# Altium footprint library CASE-A.PcbLib: 1 footprints
Each footprint in its own frame and in the unit in brackets; x right, y up, seen from the top. Pads: shape width x height; smd on the part's side, far side on the other; paste and mask are expansions set on the pad; w line width, h text height; cw(c..) or ccw(c..) is an arc to the next point about the centre after c.
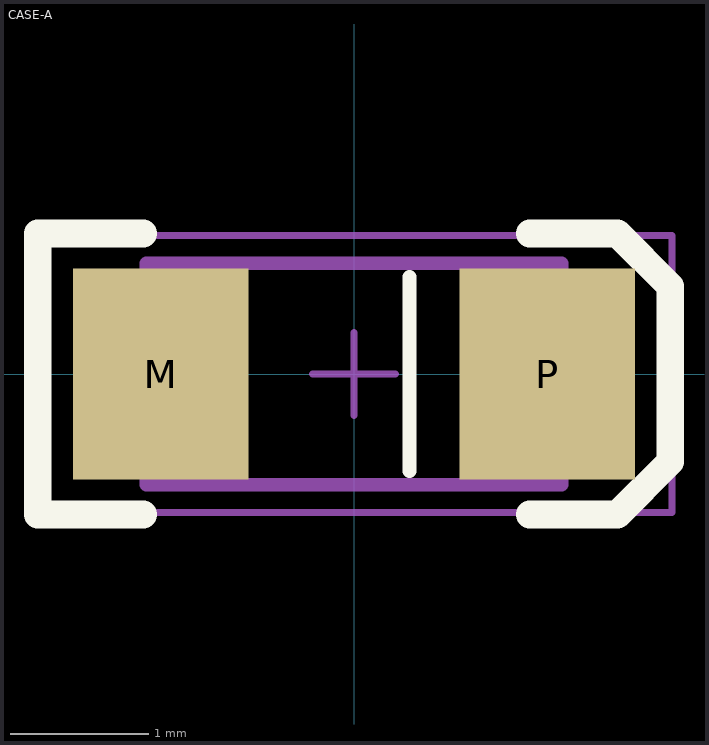
[diagram p0: the footprint, top view; thin cyan lines are the x and y axes]

## CASE-A [mil]
height 62.99
pads (2):
  rect 50x60 smd: M(-55,0) P(55,0)
TopOverlay:
  lines w3.94: 15.75,-27.56 15.75,27.56
  lines w7.87: -60,-40 -90,-40 -90,40 -60,40 ; 50,-40 75,-40 90,-25 90,25 75,40 50,40
Mechanical13:
  lines w3.94: -59.06,-23.62 -66.93,-23.62 -66.93,23.62 -59.06,23.62 ; 59.06,-23.62 66.93,-23.62 66.93,23.62 59.06,23.62 ; -59.06,-31.5 -59.06,31.5 59.06,31.5 59.06,-31.5 -59.06,-31.5
Mechanical15:
  lines w1.97: -11.81,0 11.81,0 ; 0,-11.81 0,11.81 ; -90.55,-39.37 90.55,-39.37 90.55,39.37 -90.55,39.37 -90.55,-39.37
3D body: height 39.37, standoff 0, extent -66.91,-23.6 -59.08,23.6
3D body: height 62.99, standoff 0, extent -59.04,-31.48 59.04,31.48
3D body: height 39.37, standoff 0, extent 59.08,-23.6 66.91,23.6